# EAGLE library part W7100A_64 (library WIZnet)
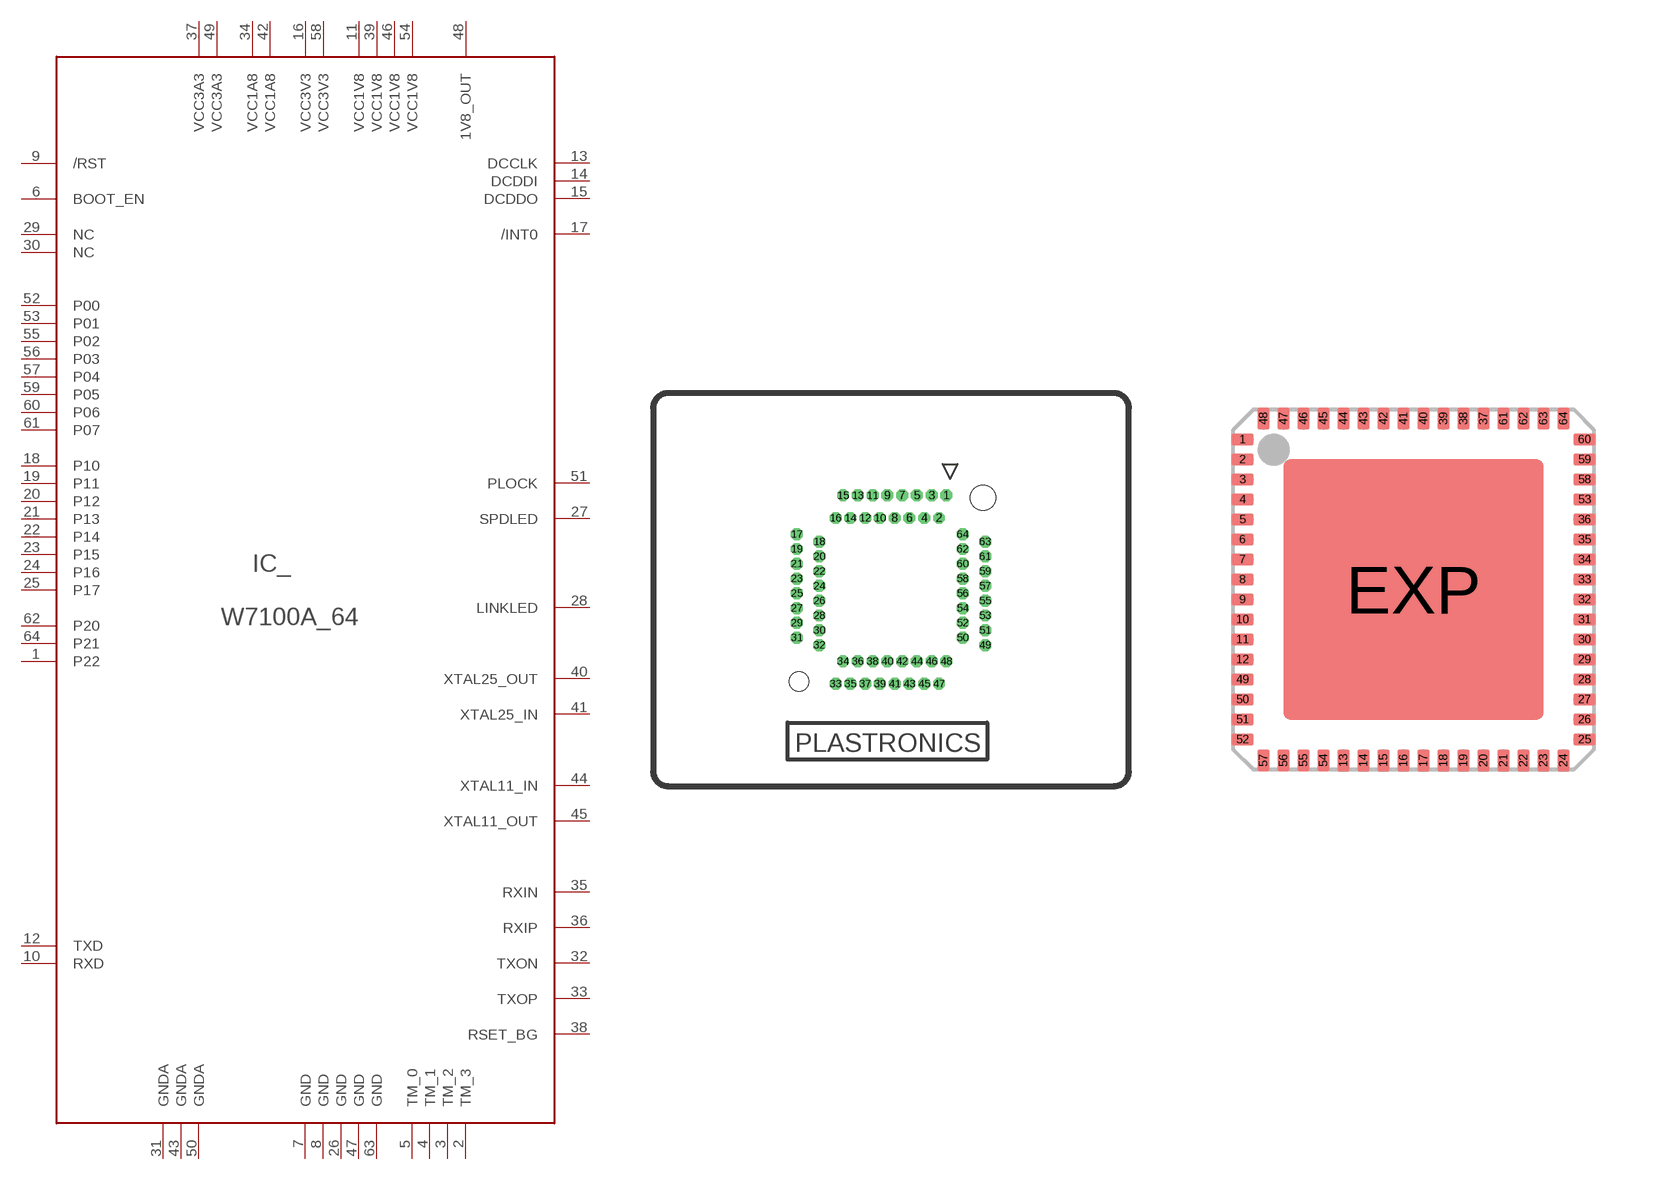
[diagram p6: symbol with the pads of 64LQ50S19090; footprints 64LQ50S19090, QFN64]

Designator prefix IC_

## W7100A_64'TESTSOCKET'  [64LQ50S19090]
1  P22
2  TM_3
3  TM_2
4  TM_1
5  TM_0
6  BOOT_EN
7  GND
8  GND
9  /RST
10  RXD
11  VCC1V8
12  TXD
13  DCCLK
14  DCDDI
15  DCDDO
16  VCC3V3
17  /INT0
18  P10
19  P11
20  P12
21  P13
22  P14
23  P15
24  P16
25  P17
26  GND
27  SPDLED
28  LINKLED
29  NC
30  NC
31  GNDA
32  TXON
33  TXOP
34  VCC1A8
35  RXIN
36  RXIP
37  VCC3A3
38  RSET_BG
39  VCC1V8
40  XTAL25_OUT
41  XTAL25_IN
42  VCC1A8
43  GNDA
44  XTAL11_IN
45  XTAL11_OUT
46  VCC1V8
47  GND
48  1V8_OUT
49  VCC3A3
50  GNDA
51  PLOCK
52  P00
53  P01
54  VCC1V8
55  P02
56  P03
57  P04
58  VCC3V3
59  P05
60  P06
61  P07
62  P20
63  GND
64  P21

## W7100A_64'STANDRARD'  [QFN64]
Pads as for 64LQ50S19090

## Footprint 64LQ50S19090 (pad centres in mm)
drill 0.3 octagon: 1 3.75,6.375; 2 3.25,4.85; 3 2.75,6.375; 4 2.25,4.85; 5 1.75,6.375; 6 1.25,4.85; 7 0.75,6.375; 8 0.25,4.85; 9 -0.25,6.375; 10 -0.75,4.85; 11 -1.25,6.375; 12 -1.75,4.85; 13 -2.25,6.375; 14 -2.75,4.85; 15 -3.25,6.375; 16 -3.75,4.85; 17 -6.375,3.75; 18 -4.85,3.25; 19 -6.375,2.75; 20 -4.85,2.25; 21 -6.375,1.75; 22 -4.85,1.25; 23 -6.375,0.75; 24 -4.85,0.25; 25 -6.375,-0.25; 26 -4.85,-0.75; 27 -6.375,-1.25; 28 -4.85,-1.75; 29 -6.375,-2.25; 30 -4.85,-2.75; 31 -6.375,-3.25; 32 -4.85,-3.75; 33 -3.75,-6.375; 34 -3.25,-4.85; 35 -2.75,-6.375; 36 -2.25,-4.85; 37 -1.75,-6.375; 38 -1.25,-4.85; 39 -0.75,-6.375; 40 -0.25,-4.85; 41 0.25,-6.375; 42 0.75,-4.85; 43 1.25,-6.375; 44 1.75,-4.85; 45 2.25,-6.375; 46 2.75,-4.85; 47 3.25,-6.375; 48 3.75,-4.85; 49 6.375,-3.75; 50 4.85,-3.25; 51 6.375,-2.75; 52 4.85,-2.25; 53 6.375,-1.75; 54 4.85,-1.25; 55 6.375,-0.75; 56 4.85,-0.25; 57 6.375,0.25; 58 4.85,0.75; 59 6.375,1.25; 60 4.85,1.75; 61 6.375,2.25; 62 4.85,2.75; 63 6.375,3.25; 64 4.85,3.75
hole 1.3 at -6.225,-6.225
hole 1.7 at 6.225,6.225

## Footprint QFN64 (pad centres in mm)
smd 0.55 x 0.3: 1 -4.275,3.75; 2 -4.275,3.25; 3 -4.275,2.75; 4 -4.275,2.25; 5 -4.275,1.75; 6 -4.275,1.25; 7 -4.275,0.75; 8 -4.275,0.25; 9 -4.275,-0.25; 10 -4.275,-0.75; 11 -4.275,-1.25; 12 -4.275,-1.75; 25 4.275,-3.75; 26 4.275,-3.25; 27 4.275,-2.75; 28 4.275,-2.25; 29 4.275,-1.75; 30 4.275,-1.25; 31 4.275,-0.75; 32 4.275,-0.25; 33 4.275,0.25; 34 4.275,0.75; 35 4.275,1.25; 36 4.275,1.75; 49 -4.275,-2.25; 50 -4.275,-2.75; 51 -4.275,-3.25; 52 -4.275,-3.75; 53 4.275,2.25; 58 4.275,2.75; 59 4.275,3.25; 60 4.275,3.75
smd 0.3 x 0.55: 13 -1.75,-4.275; 14 -1.25,-4.275; 15 -0.75,-4.275; 16 -0.25,-4.275; 17 0.25,-4.275; 18 0.75,-4.275; 19 1.25,-4.275; 20 1.75,-4.275; 21 2.25,-4.275; 22 2.75,-4.275; 23 3.25,-4.275; 24 3.75,-4.275; 37 1.75,4.275; 38 1.25,4.275; 39 0.75,4.275; 40 0.25,4.275; 41 -0.25,4.275; 42 -0.75,4.275; 43 -1.25,4.275; 44 -1.75,4.275; 45 -2.25,4.275; 46 -2.75,4.275; 47 -3.25,4.275; 48 -3.75,4.275; 54 -2.25,-4.275; 55 -2.75,-4.275; 56 -3.25,-4.275; 57 -3.75,-4.275; 61 2.25,4.275; 62 2.75,4.275; 63 3.25,4.275; 64 3.75,4.275
smd 6.5 x 6.5: EXP 0,0